# EAGLE library part ADUC841 (library aduc841)
LFCSP56 package. made by Emilio M Bumachar. NOT TESTED !! please report any mistakes to emiliobumachar@yahoo.com Based on standard analog-devices library
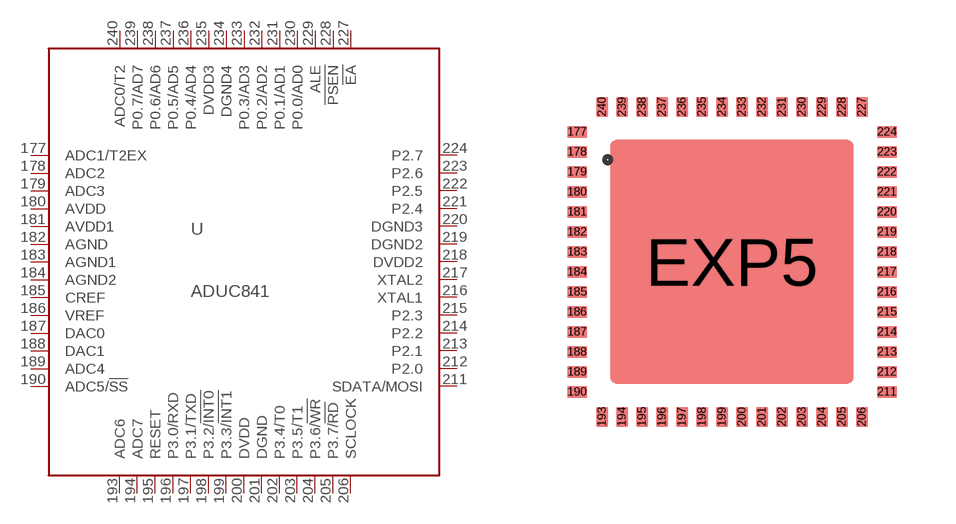
[diagram p0: symbol with the pads of LFCSP56; footprint LFCSP56]

Designator prefix -

## ADUC841  [LFCSP56]
177  ADC1/T2EX  in
178  ADC2  in
179  ADC3  in
180  AVDD  pwr
181  AVDD1  pwr
182  AGND  pwr
183  AGND1  pwr
184  AGND2  pwr
185  CREF  in
186  VREF
187  DAC0  out
188  DAC1  out
189  ADC4  in
190  ADC5/!SS  in
193  ADC6  in
194  ADC7  in
195  RESET  in
196  P3.0/RXD
197  P3.1/TXD
198  P3.2/!INT0
199  P3.3/!INT1
200  DVDD  pwr
201  DGND  pwr
202  P3.4/T0
203  P3.5/T1
204  P3.6/!WR
205  P3.7/!RD
206  SCLOCK  in
211  SDATA/MOSI  in
212  P2.0
213  P2.1
214  P2.2
215  P2.3
216  XTAL1  in
217  XTAL2  out
218  DVDD2
219  DGND2
220  DGND3
221  P2.4
222  P2.5
223  P2.6
224  P2.7
227  !EA  in
228  !PSEN  out
229  ALE  out
230  P0.0/AD0
231  P0.1/AD1
232  P0.2/AD2
233  P0.3/AD3
234  DGND4
235  DVDD3
236  P0.4/AD4
237  P0.5/AD5
238  P0.6/AD6
239  P0.7/AD7
240  ADC0/T2  in

## Footprint LFCSP56 (pad centres in mm)
smd 0.5 x 0.3: 177 -0.617,0.001; 178 -0.617,-0.499; 179 -0.617,-0.999; 180 -0.617,-1.499; 181 -0.617,-1.999; 182 -0.617,-2.499; 183 -0.617,-2.999; 184 -0.617,-3.499; 185 -0.617,-3.999; 186 -0.617,-4.499; 187 -0.617,-4.999; 188 -0.617,-5.499; 189 -0.617,-5.999; 190 -0.617,-6.499; 211 7.133,-6.499; 212 7.133,-5.999; 213 7.133,-5.499; 214 7.133,-4.999; 215 7.133,-4.499; 216 7.133,-3.999; 217 7.133,-3.499; 218 7.133,-2.999; 219 7.133,-2.499; 220 7.133,-1.999; 221 7.133,-1.499; 222 7.133,-0.999; 223 7.133,-0.499; 224 7.133,0.001
smd 0.3 x 0.5: 193 0.008,-7.124; 194 0.508,-7.124; 195 1.008,-7.124; 196 1.508,-7.124; 197 2.008,-7.124; 198 2.508,-7.124; 199 3.008,-7.124; 200 3.508,-7.124; 201 4.008,-7.124; 202 4.508,-7.124; 203 5.008,-7.124; 204 5.508,-7.124; 205 6.008,-7.124; 206 6.508,-7.124; 227 6.508,0.626; 228 6.008,0.626; 229 5.508,0.626; 230 5.008,0.626; 231 4.508,0.626; 232 4.008,0.626; 233 3.508,0.626; 234 3.008,0.626; 235 2.508,0.626; 236 2.008,0.626; 237 1.508,0.626; 238 1.008,0.626; 239 0.508,0.626; 240 0.008,0.626
smd 6.1 x 6.1: EXP5 3.258,-3.249